# Altium footprint library QFN50P500X500X90-33N-V1.PcbLib: 1 footprints
Each footprint in its own frame and in the unit in brackets; x right, y up, seen from the top. Pads: shape width x height; smd on the part's side, far side on the other; paste and mask are expansions set on the pad; w line width, h text height; cw(c..) or ccw(c..) is an arc to the next point about the centre after c.
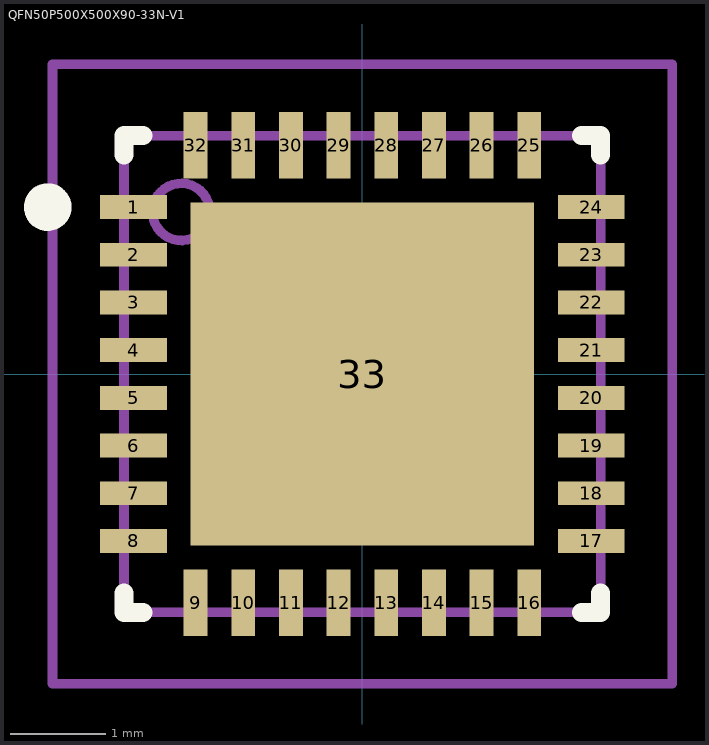
[diagram p0: the footprint, top view; thin cyan lines are the x and y axes]

## QFN50P500X500X90-33N-V1 [mm] "QFN,0.50mm pitch,square;32 pin,5.00mm L X 5.00mm W X 0.90mm H body (w/thermal tab)"
height 0.9
pads (33):
  rect 0.7x0.25 smd paste+0 mask+0: 1(-2.4,1.75) 2(-2.4,1.25) 3(-2.4,0.75) 4(-2.4,0.25) 5(-2.4,-0.25) 6(-2.4,-0.75) 7(-2.4,-1.25) 8(-2.4,-1.75) 17(2.4,-1.75) 18(2.4,-1.25) 19(2.4,-0.75) 20(2.4,-0.25) 21(2.4,0.25) 22(2.4,0.75) 23(2.4,1.25) 24(2.4,1.75)
  rect 0.25x0.7 smd paste+0 mask+0: 9(-1.75,-2.4) 10(-1.25,-2.4) 11(-0.75,-2.4) 12(-0.25,-2.4) 13(0.25,-2.4) 14(0.75,-2.4) 15(1.25,-2.4) 16(1.75,-2.4) 25(1.75,2.4) 26(1.25,2.4) 27(0.75,2.4) 28(0.25,2.4) 29(-0.25,2.4) 30(-0.75,2.4) 31(-1.25,2.4) 32(-1.75,2.4)
  rect 3.6x3.6 smd paste-1.8 mask+0: 33(0,0)
Top Overlay:
  circle w0.25: c-3.3,1.75 r0.125
  lines w0.2: -2.5,-2.3 -2.5,-2.5 -2.3,-2.5 ; -2.5,2.3 -2.5,2.5 -2.3,2.5 ; 2.3,-2.5 2.5,-2.5 2.5,-2.3 ; 2.3,2.5 2.5,2.5 2.5,2.3
Top Paste:
  region: 0.2,-0.2 0.2,-1.6 1.6,-1.6 1.6,-0.2
  region: -1.6,-0.2 -1.6,-1.6 -0.2,-1.6 -0.2,-0.2
  region: -1.6,1.6 -1.6,0.2 -0.2,0.2 -0.2,1.6
  region: 0.2,1.6 0.2,0.2 1.6,0.2 1.6,1.6
M3 (ASY_Text_Top):
  text ".DESIGNATOR" at 0,0 h1.2
M13 (CMP_Body_OTL_Top):
  circle w0.1: c-1.9,1.7 r0.3
  lines w0.1: -2.5,-2.5 -2.5,2.5 2.5,2.5 2.5,-2.5 -2.5,-2.5
M15 (CMP_Courtyard_Top):
  lines w0.1: -0.5,0 0.5,0 ; 0,-0.5 0,0.5 ; -3.25,-3.25 -3.25,3.25 3.25,3.25 3.25,-3.25 -3.25,-3.25
3D body "PG-VQFN-32-20_Z8B00189132_V01_3D.stp": height 0.91, standoff 0, extent -2.5,-2.5 2.5,2.5